# Altium footprint library libatfc.PcbLib: 59 footprints (part 1 of 4)
Each footprint in its own frame and in the unit in brackets; x right, y up, seen from the top. Pads: shape width x height; smd on the part's side, far side on the other; paste and mask are expansions set on the pad; w line width, h text height; cw(c..) or ccw(c..) is an arc to the next point about the centre after c.
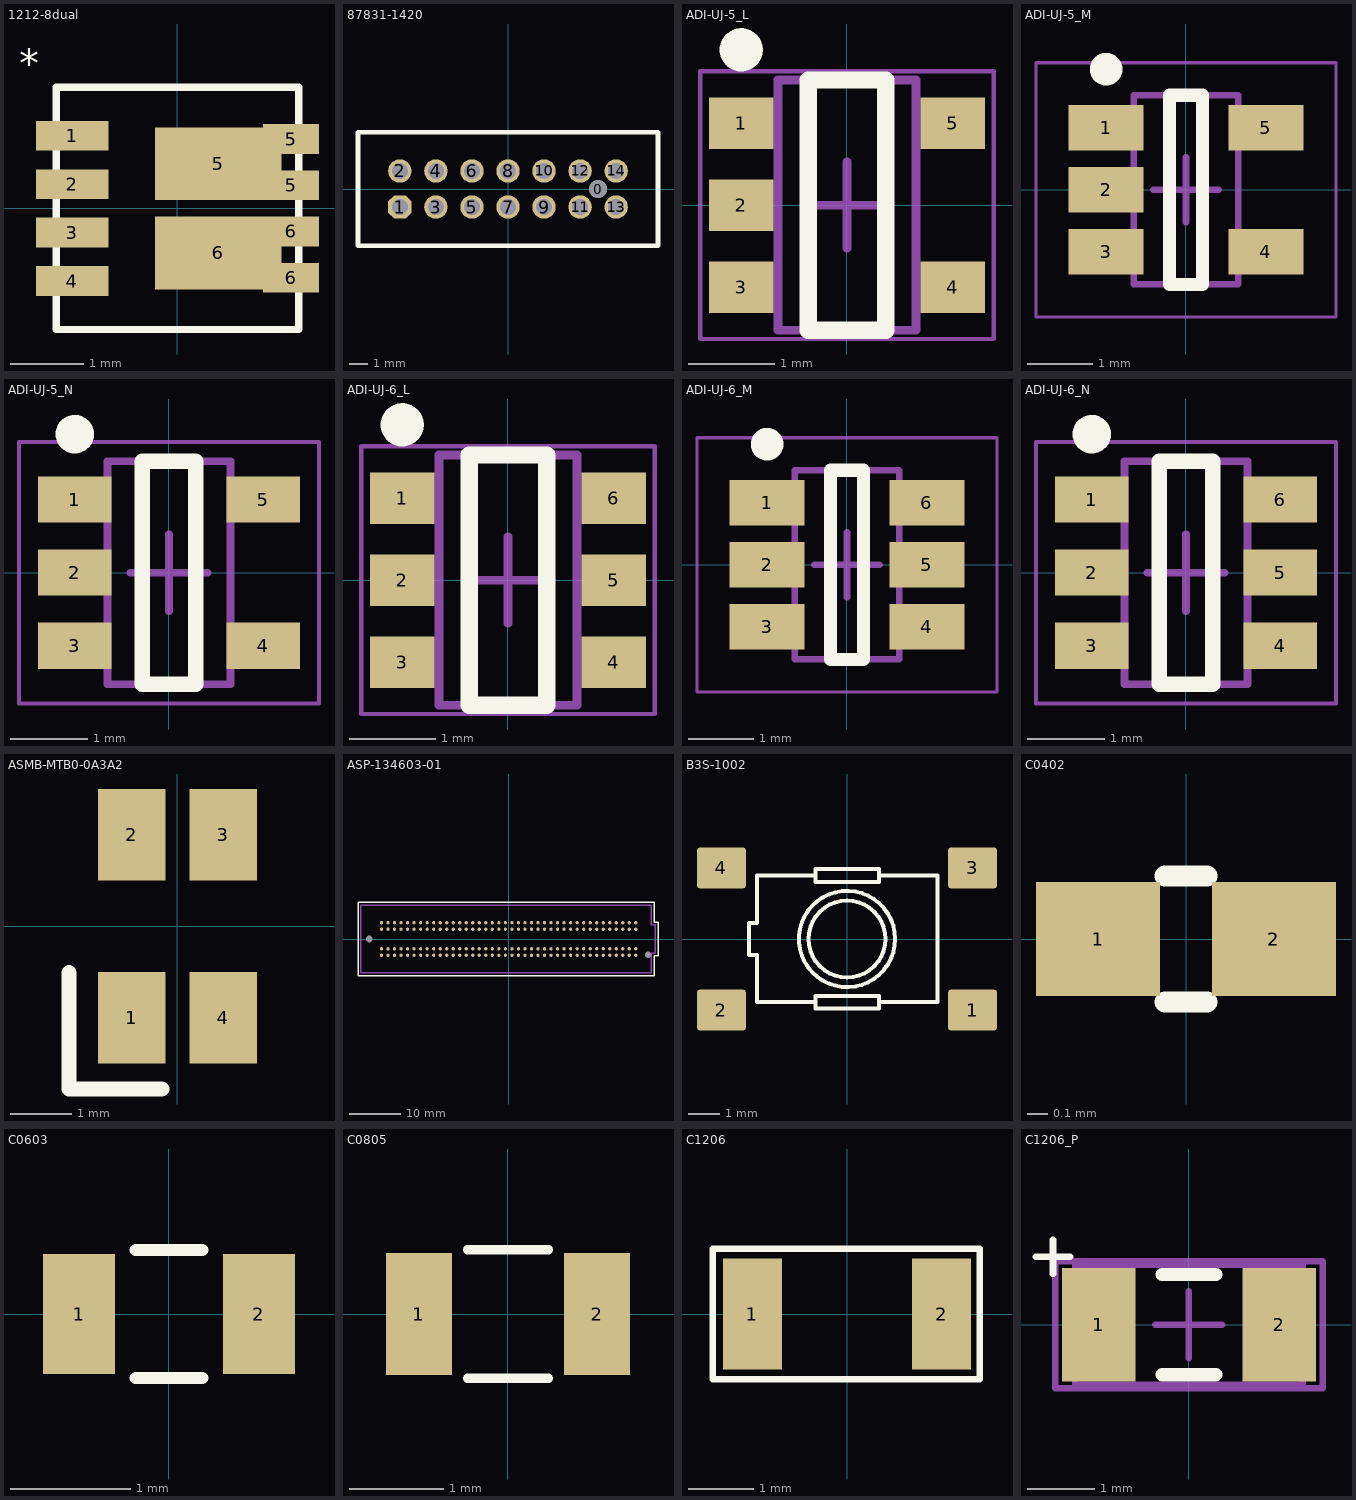
[diagram p0: the footprints below, top view; thin cyan lines are the x and y axes]

## 1212-8dual [mm]
pads (10):
  rect 0.99x0.405 smd: 1(-1.435,0.99) 2(-1.435,0.33) 3(-1.435,-0.33) 4(-1.435,-0.99)
  rect 1.725x0.99 smd: 5(0.557,0.607) 6(0.557,-0.608)
  rect 0.76x0.405 smd: 5(1.55,0.315) 5(1.55,0.945) 6(1.55,-0.945) 6(1.55,-0.315)
Top Overlay:
  lines w0.1: 1.65,-1.65 -1.65,-1.65 -1.65,1.65 1.65,1.65 ; 1.652,-1.65 1.652,1.65
  text "*" at -2.159,1.778 h0.4
3D body: height 0.5, standoff 0, extent -1.651,-1.651 1.651,1.651

## 87831-1420 [mm] "Molex 2mm 14pin header"
pads (15):
  round 1 hole 1: 0(5,0)
  oct 1.3x1.3 hole 0.9: 1(-6,-1)
  round 1.3 hole 0.9: 2(-6,1) 3(-4,-1) 4(-4,1) 5(-2,-1) 6(-2,1) 7(0,-1) 8(0,1) 9(2,-1) 10(2,1) 11(4,-1) 12(4,1) 13(6,-1) 14(6,1)
Top Overlay:
  lines w0.254: -8.325,-3.15 8.325,-3.15 8.325,3.15 -8.325,3.15 -8.325,-3.15
3D body "878311420.stp": height 6.2, standoff -2.7, extent -8.35,-3.251 8.3,3.049

## ADI-UJ-5_L [mm] "SOT23, 5-Leads, Body 2.9x1.6mm, Pitch 0.95mm, IPC High Density"
height 1
pads (5):
  rect 0.75x0.6 smd: 1(-1.225,0.95) 2(-1.225,0) 3(-1.225,-0.95) 4(1.225,-0.95) 5(1.225,0.95)
Top Overlay:
  circle w0.25: c-1.225,1.8 r0.125
  lines w0.2: -0.45,-1.45 0.45,-1.45 0.45,1.45 -0.45,1.45 -0.45,-1.45
Mechanical 13:
  lines w0.1: -0.8,-1.45 -0.8,1.45 0.8,1.45 0.8,-1.45 -0.8,-1.45
Mechanical 15:
  lines w0.05: -1.7,-1.55 -1.7,1.55 1.7,1.55 1.7,-1.55 -1.7,-1.55
  lines w0.1: -0.5,0 0.5,0 ; 0,-0.5 0,0.5
3D body: height 1, standoff 0, extent -0.8,-1.45 0.8,1.45

## ADI-UJ-5_M [mm] "SOT23, 5-Leads, Body 2.9x1.6mm, Pitch 0.95mm, IPC Low Density"
height 1
pads (5):
  rect 1.15x0.7 smd: 1(-1.225,0.95) 2(-1.225,0) 3(-1.225,-0.95) 4(1.225,-0.95) 5(1.225,0.95)
Top Overlay:
  circle w0.25: c-1.225,1.85 r0.125
  lines w0.2: -0.25,-1.45 -0.25,1.45 0.25,1.45 0.25,-1.45 -0.25,-1.45
Mechanical 13:
  lines w0.1: -0.8,-1.45 0.8,-1.45 0.8,1.45 -0.8,1.45 -0.8,-1.45
Mechanical 15:
  lines w0.05: -2.3,-1.95 2.3,-1.95 2.3,1.95 -2.3,1.95 -2.3,-1.95
  lines w0.1: -0.5,0 0.5,0 ; 0,-0.5 0,0.5
3D body: height 1, standoff 0, extent -0.8,-1.45 0.8,1.45

## ADI-UJ-5_N [mm] "SOT23, 5-Leads, Body 2.9x1.6mm, Pitch 0.95mm, IPC Medium Density"
height 1
pads (5):
  rect 0.95x0.6 smd: 1(-1.225,0.95) 2(-1.225,0) 3(-1.225,-0.95) 4(1.225,-0.95) 5(1.225,0.95)
Top Overlay:
  circle w0.25: c-1.225,1.8 r0.125
  lines w0.2: -0.35,-1.45 0.35,-1.45 0.35,1.45 -0.35,1.45 -0.35,-1.45
Mechanical 13:
  lines w0.1: -0.8,-1.45 -0.8,1.45 0.8,1.45 0.8,-1.45 -0.8,-1.45
Mechanical 15:
  lines w0.05: -1.95,-1.7 -1.95,1.7 1.95,1.7 1.95,-1.7 -1.95,-1.7
  lines w0.1: -0.5,0 0.5,0 ; 0,-0.5 0,0.5
3D body: height 1, standoff 0, extent -0.8,-1.45 0.8,1.45

## ADI-UJ-6_L [mm] "SOT23, 6-Leads, Body 2.9x1.6mm, Pitch 0.95mm, IPC High Density"
height 1
pads (6):
  rect 0.75x0.6 smd: 1(-1.225,0.95) 2(-1.225,0) 3(-1.225,-0.95) 4(1.225,-0.95) 5(1.225,0) 6(1.225,0.95)
Top Overlay:
  circle w0.25: c-1.225,1.8 r0.125
  lines w0.2: -0.45,-1.45 -0.45,1.45 0.45,1.45 0.45,-1.45 -0.45,-1.45
Mechanical 13:
  lines w0.1: -0.8,-1.45 0.8,-1.45 0.8,1.45 -0.8,1.45 -0.8,-1.45
Mechanical 15:
  lines w0.05: -1.7,-1.55 1.7,-1.55 1.7,1.55 -1.7,1.55 -1.7,-1.55
  lines w0.1: -0.5,0 0.5,0 ; 0,-0.5 0,0.5
3D body: height 1, standoff 0.1, extent -0.8,-1.45 0.8,1.45

## ADI-UJ-6_M [mm] "SOT23, 6-Leads, Body 2.9x1.6mm, Pitch 0.95mm, IPC Low Density"
height 1
pads (6):
  rect 1.15x0.7 smd: 1(-1.225,0.95) 2(-1.225,0) 3(-1.225,-0.95) 4(1.225,-0.95) 5(1.225,0) 6(1.225,0.95)
Top Overlay:
  circle w0.25: c-1.225,1.85 r0.125
  lines w0.2: -0.25,-1.45 -0.25,1.45 0.25,1.45 0.25,-1.45 -0.25,-1.45
Mechanical 13:
  lines w0.1: -0.8,-1.45 0.8,-1.45 0.8,1.45 -0.8,1.45 -0.8,-1.45
Mechanical 15:
  lines w0.05: -2.3,-1.95 2.3,-1.95 2.3,1.95 -2.3,1.95 -2.3,-1.95
  lines w0.1: -0.5,0 0.5,0 ; 0,-0.5 0,0.5
3D body: height 1, standoff 0.1, extent -0.8,-1.45 0.8,1.45

## ADI-UJ-6_N [mm] "SOT23, 6-Leads, Body 2.9x1.6mm, Pitch 0.95mm, IPC Medium Density"
height 1
pads (6):
  rect 0.95x0.6 smd: 1(-1.225,0.95) 2(-1.225,0) 3(-1.225,-0.95) 4(1.225,-0.95) 5(1.225,0) 6(1.225,0.95)
Top Overlay:
  circle w0.25: c-1.225,1.8 r0.125
  lines w0.2: -0.35,-1.45 0.35,-1.45 0.35,1.45 -0.35,1.45 -0.35,-1.45
Mechanical 13:
  lines w0.1: -0.8,-1.45 -0.8,1.45 0.8,1.45 0.8,-1.45 -0.8,-1.45
Mechanical 15:
  lines w0.05: -1.95,-1.7 -1.95,1.7 1.95,1.7 1.95,-1.7 -1.95,-1.7
  lines w0.1: -0.5,0 0.5,0 ; 0,-0.5 0,0.5
3D body: height 1, standoff 0.1, extent -0.8,-1.45 0.8,1.45

## ASMB-MTB0-0A3A2 [mm]
pads (4):
  rect 1.1x1.5 smd: 1(-0.75,-1.5) 2(-0.75,1.5) 3(0.75,1.5) 4(0.75,-1.5)
Top Overlay:
  lines w0.254: -1.778,-0.762 -1.778,-2.667 -0.254,-2.667
3D body "User Library-ASMB-MTB0-0A3A2.STEP": height 1.9, standoff 0, extent -1.395,-1.685 1.405,1.815

## ASP-134603-01 [mil]
pads (162):
  round 25 smd paste+5 mask+2: C1(975,-125) C2(925,-125) C3(875,-125) C4(825,-125) C5(775,-125) C6(725,-125) C7(675,-125) C8(625,-125) C9(575,-125) C10(525,-125) C11(475,-125) C12(425,-125) C13(375,-125) C14(325,-125) C15(275,-125) C16(225,-125) C17(175,-125) C18(125,-125) C19(75,-125) C20(25,-125) C21(-25,-125) C22(-75,-125) C23(-125,-125) C24(-175,-125) C25(-225,-125) C26(-275,-125) C27(-325,-125) C28(-375,-125) C29(-425,-125) C30(-475,-125) C31(-525,-125) C32(-575,-125) C33(-625,-125) C34(-675,-125) C35(-725,-125) C36(-775,-125) C37(-825,-125) C38(-875,-125) C39(-925,-125) C40(-975,-125) D1(975,-75) D2(925,-75) D3(875,-75) D4(825,-75) D5(775,-75) D6(725,-75) D7(675,-75) D8(625,-75) D9(575,-75) D10(525,-75) D11(475,-75) D12(425,-75) D13(375,-75) D14(325,-75) D15(275,-75) D16(225,-75) D17(175,-75) D18(125,-75) D19(75,-75) D20(25,-75) D21(-25,-75) D22(-75,-75) D23(-125,-75) D24(-175,-75) D25(-225,-75) D26(-275,-75) D27(-325,-75) D28(-375,-75) D29(-425,-75) D30(-475,-75) D31(-525,-75) D32(-575,-75) D33(-625,-75) D34(-675,-75) D35(-725,-75) D36(-775,-75) D37(-825,-75) D38(-875,-75) D39(-925,-75) D40(-975,-75) G1(975,75) G2(925,75) G3(875,75) G4(825,75) G5(775,75) G6(725,75) G7(675,75) G8(625,75) G9(575,75) G10(525,75) G11(475,75) G12(425,75) G13(375,75) G14(325,75) G15(275,75) G16(225,75) G17(175,75) G18(125,75) G19(75,75) G20(25,75) G21(-25,75) G22(-75,75) G23(-125,75) G24(-175,75) G25(-225,75) G26(-275,75) G27(-325,75) G28(-375,75) G29(-425,75) G30(-475,75) G31(-525,75) G32(-575,75) G33(-625,75) G34(-675,75) G35(-725,75) G36(-775,75) G37(-825,75) G38(-875,75) G39(-925,75) G40(-975,75) H1(975,125) H2(925,125) H3(875,125) H4(825,125) H5(775,125) H6(725,125) H7(675,125) H8(625,125) H9(575,125) H10(525,125) H11(475,125) H12(425,125) H13(375,125) H14(325,125) H15(275,125) H16(225,125) H17(175,125) H18(125,125) H19(75,125) H20(25,125) H21(-25,125) H22(-75,125) H23(-125,125) H24(-175,125) H25(-225,125) H26(-275,125) H27(-325,125) H28(-375,125) H29(-425,125) H30(-475,125) H31(-525,125) H32(-575,125) H33(-625,125) H34(-675,125) H35(-725,125) H36(-775,125) H37(-825,125) H38(-875,125) H39(-925,125) H40(-975,125)
  round 0 hole 50 unplated: MH1(1070.5,-120) MH2(-1070.5,0)
Top Overlay:
  lines w10: -1155,-280 1115,-280 1115,-130 1145,-130 1145,130 1115,130 1115,280 -1155,280 -1155,-280
Mechanical 1:
  lines w10: -1135,-260 1095,-260 1095,-110 1125,-110 1125,110 1095,110 1095,260 -1135,260 -1135,-260
  text "J1" at -19.57,-20 h30
3D body "459714305.stp": height 259.15, standoff -48.85, extent -1131,-295 1151,283

## B3S-1002 [mm]
height 7.12
pads (4):
  rrect15% 1.55x1.3 smd: 1(3.975,-2.25) 2(-3.975,-2.25) 3(3.975,2.25) 4(-3.975,2.25)
Top Overlay:
  circle w0.127: c0,0 r1.524
  circle w0.127: c0,0 r1.219
  lines w0.127: -1,-2 -1,-1.8 1.016,-1.8 1.016,-2 ; -1,-2 -1,-2.2 1.016,-2.2 1.016,-2 ; -1,-2 -2.85,-2 -2.85,-0.5 -3.1,-0.5 -3.1,0.508 -2.85,0.508 -2.85,2.007 -1,2.007 ; -1,2.007 -1,2.21 1.016,2.21 1.016,2.007 ; -1,2.007 -1,1.803 1.016,1.803 1.016,2.007 ; 1.016,-2 2.87,-2 2.87,2.007 1.016,2.007
3D body "B3S_100[].stp": height 4.4, standoff 0, extent -4.627,-3.327 4.373,3.273

## C0402 [mm]
pads (2):
  rect 0.6x0.55 smd: 1(-0.425,0) 2(0.425,0)
Top Overlay:
  lines w0.102: -0.102,-0.305 0.102,-0.305 ; -0.102,0.305 0.102,0.305
3D body: height 0.35, standoff 0, extent 0.381,-0.254 0.54,0.254
3D body: height 0.35, standoff 0, extent -0.381,-0.254 0.381,0.254
3D body: height 0.35, standoff 0, extent -0.54,-0.254 -0.381,0.254

## C0603 [mm]
pads (2):
  rect 0.6x1 smd: 1(-0.75,0) 2(0.75,0)
Top Overlay:
  lines w0.1: -0.279,-0.533 0.279,-0.533 ; -0.279,0.533 0.279,0.533
3D body: height 0.35, standoff 0, extent -0.762,-0.444 -0.508,0.445
3D body: height 0.35, standoff 0, extent 0.508,-0.444 0.762,0.445
3D body: height 0.35, standoff 0, extent -0.508,-0.444 0.508,0.445

## C0805 [mm]
pads (2):
  rect 0.7x1.3 smd: 1(-0.95,0) 2(0.95,0)
Top Overlay:
  lines w0.1: -0.432,-0.686 0.432,-0.686 ; -0.432,0.686 0.432,0.686
3D body: height 0.35, standoff 0, extent -1.016,-0.603 -0.762,0.603
3D body: height 0.35, standoff 0, extent -0.762,-0.603 0.762,0.603
3D body: height 0.35, standoff 0, extent 0.762,-0.603 1.016,0.603

## C1206 [mm]
pads (2):
  rect 0.9x1.7 smd: 1(-1.45,0) 2(1.45,0)
Top Overlay:
  lines w0.1: -2.057,-1 -2.057,0.043 -2.057,1 2.032,1 2.032,-1 -2.057,-1
3D body: height 0.55, standoff 0, extent -1.524,-0.762 -1.016,0.762
3D body: height 0.55, standoff 0, extent -1.016,-0.762 1.016,0.762
3D body: height 0.55, standoff 0, extent 1.016,-0.762 1.524,0.762

## C1206_P [mm]
height 1.3
pads (2):
  rect 1.1x1.7 smd: 1(-1.35,0) 2(1.35,0)
Top Overlay:
  lines w0.1: -2.286,1.016 -1.778,1.016 ; -2.032,0.762 -2.032,1.27
  lines w0.2: -0.4,-0.75 0.4,-0.75 ; -0.4,0.75 0.4,0.75
Mechanical 13:
  lines w0.1: -1.7,-0.9 -1.7,0.9 1.7,0.9 1.7,-0.9 -1.7,-0.9
Mechanical 15:
  lines w0.1: -0.5,0 0.5,0 ; 0,-0.5 0,0.5 ; -2,-0.95 -2,0.95 2,0.95 2,-0.95 -2,-0.95
3D body: height 1.3, standoff 0, extent -1.7,-0.9 1.7,0.9